# EAGLE library part 23LCV1024 (library parts)
1 Mbit SPI Serial SRAM with Battery Backup and SDI Interface
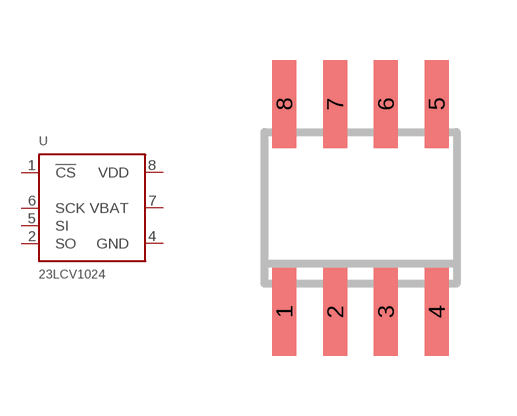
[diagram p11: symbol with the pads of SO8; footprint SO8]

Designator prefix U

## 23LCV1024-I/SN (RS: 792-8738)  [SO8]
1  !CS  in
2  SO  hiz
4  GND  pwr
5  SI  in
6  SCK  in
7  VBAT  pwr
8  VDD  pwr

## Footprint SO8 (pad centres in mm)
8-Lead Small Outline IC (SO-8) JEDEC 150mil body, Source: http://www.analog.com/UploadedFiles/Data_Sheets/703465986AD8611_2_0.pdf
smd 0.6 x 2.2: 1 -1.905,-2.6; 2 -0.635,-2.6; 3 0.635,-2.6; 4 1.905,-2.6; 5 1.905,2.6; 6 0.635,2.6; 7 -0.635,2.6; 8 -1.905,2.6